# EAGLE library part MCP1652 (library Microchip-Tim)
750KHz Boost Controller
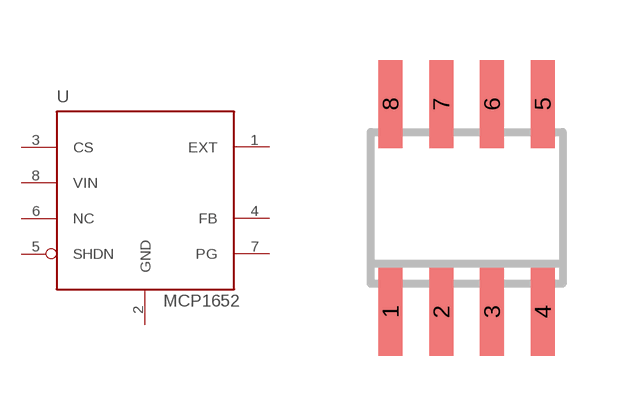
[diagram p5: symbol with the pads of SO8; footprint SO8]

Designator prefix -

## MCP1652  [SO8]
1  EXT  out
2  GND  pwr
3  CS  pwr
4  FB  in
5  SHDN  in
6  NC  nc
7  PG  out
8  VIN  pwr

## Footprint SO8 (pad centres in mm)
smd 0.6 x 2.2: 1 -1.905,-2.6; 2 -0.635,-2.6; 3 0.635,-2.6; 4 1.905,-2.6; 5 1.905,2.6; 6 0.635,2.6; 7 -0.635,2.6; 8 -1.905,2.6